# EAGLE library part MICRO-SD-BREAKOUT-5V (library 5V-microsd-breakout)
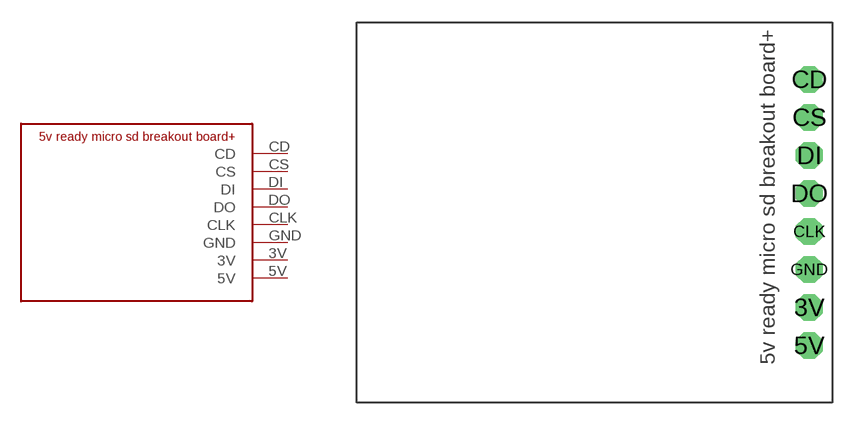
[diagram p0: symbol with the pads of 5V-MICRO-SD-BREAKOUT; footprint 5V-MICRO-SD-BREAKOUT]

Designator prefix -

## MICRO-SD-BREAKOUT-5V  [5V-MICRO-SD-BREAKOUT]
3V  3V
5V  5V
CD  CD
CLK  CLK
CS  CS
DI  DI
DO  DO
GND  GND

## Footprint 5V-MICRO-SD-BREAKOUT (pad centres in mm)
drill 1 pad 1.778 octagon: 3V 30.226,6.35; 5V 30.226,3.81; CD 30.226,21.59; CLK 30.226,11.43; CS 30.226,19.05; DI 30.226,16.51; DO 30.226,13.97; GND 30.226,8.89